# Altium integrated library Cypress Clocks & Buffers Clock Generation.IntLib: 249 symbols (part 10 of 12)
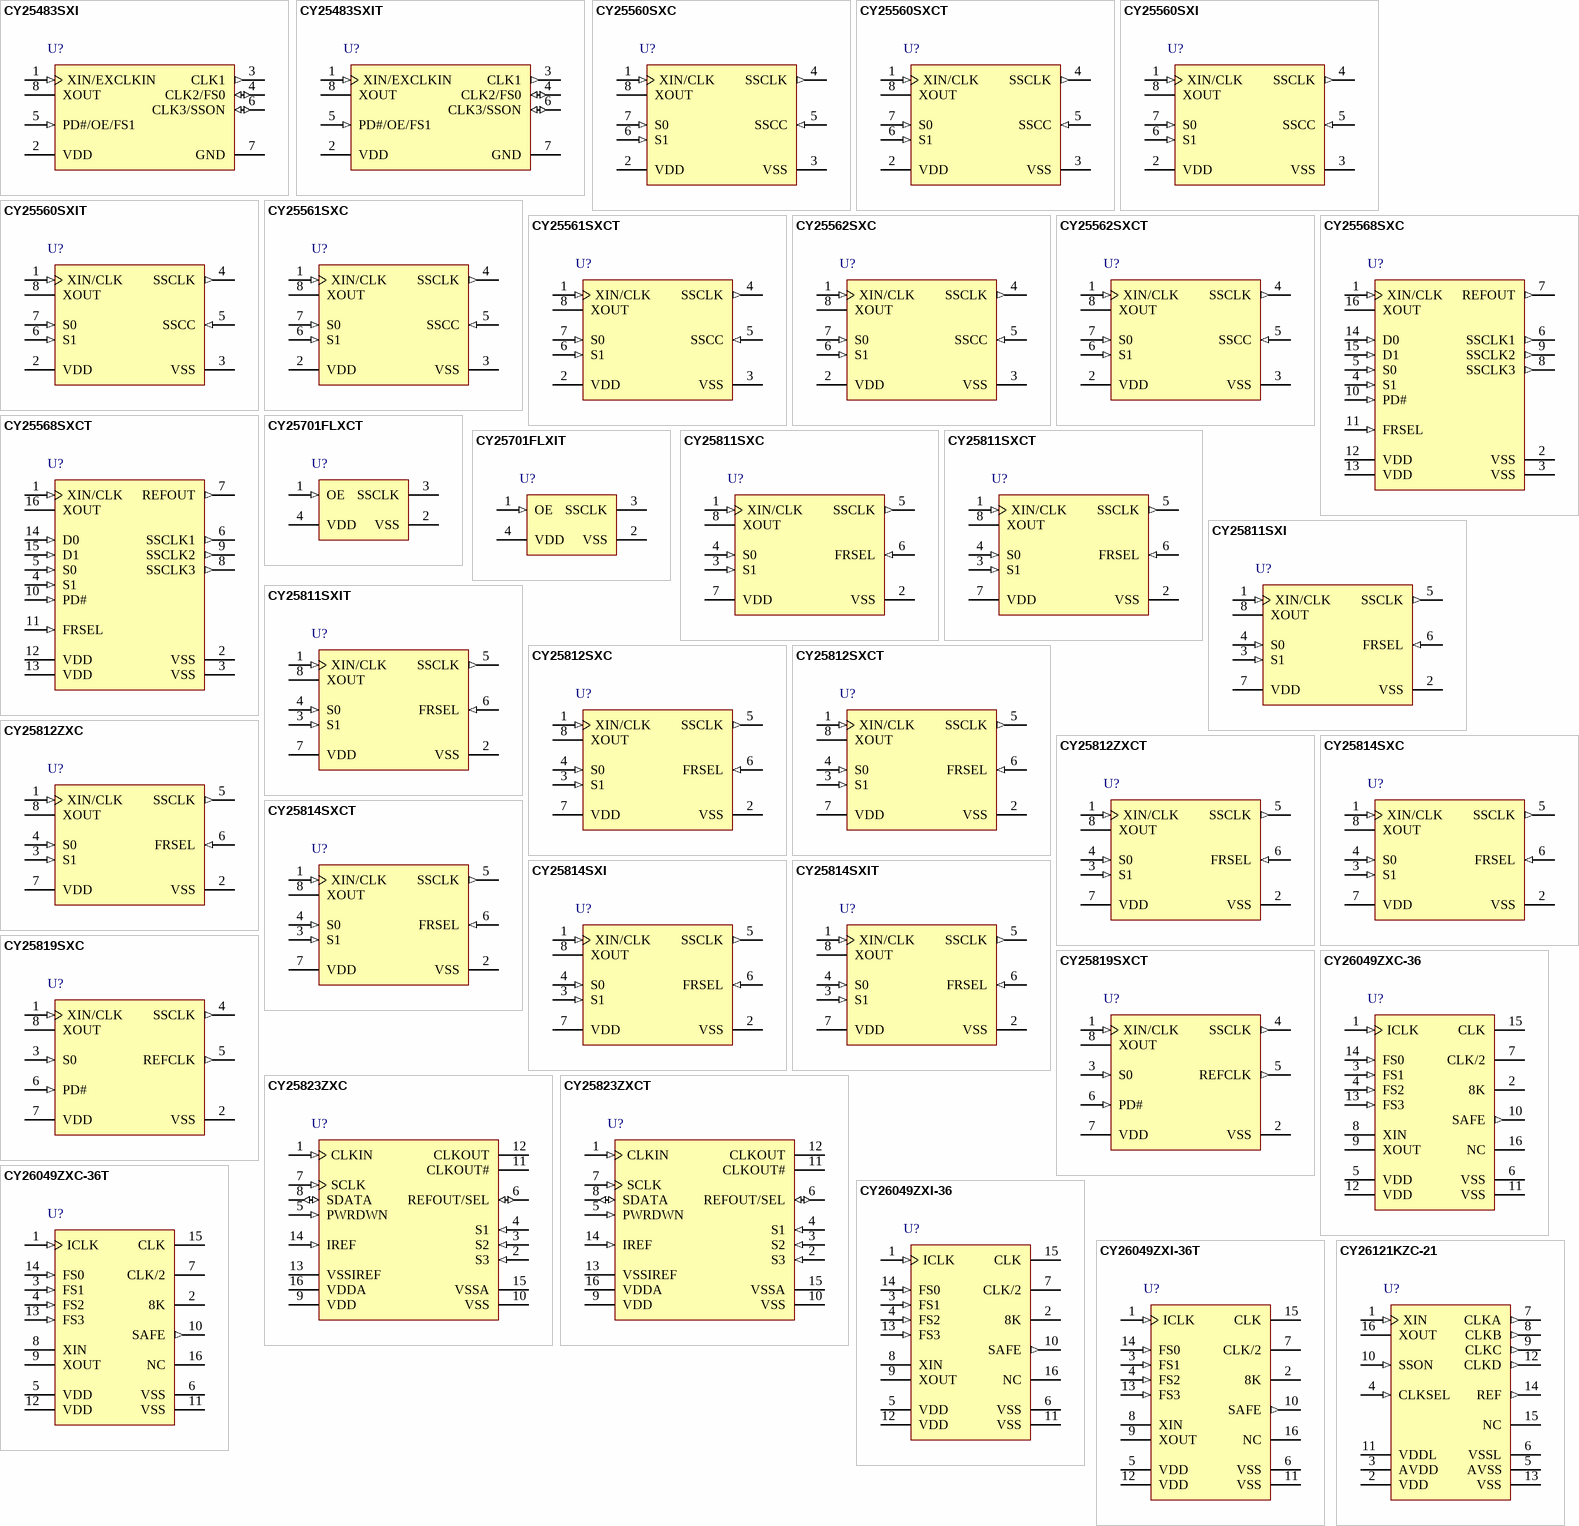
[diagram p17: symbols CY25483SXI to CY26121KZC-21]

## CY25812ZXCT
designator U?
Spread Spectrum Clock Generator, 3.3 V, 1 Output, 8 to 64 MHz, 0 to 70 degC, 8-Pin TSSOP (ZX8), Tape and Reel; Manufacturer: Cypress; PartNumber: CY25812ZXCT; Input Frequency Max. (MHz): 32; Input Frequency Min. (MHz): 4; Max. Operating Voltage (V): 3.63; Min. Operating Voltage (V): 2.97; No. of Outputs: 1; Output Frequency Max. (MHz): 64; Output Frequency Min. (MHz): 8; DatasheetVersion: Rev. *J; PackageVersion: Rev. *D, 09/2011; PackageReference: ZX8; PackageDescription: 8-Pin Thin Shrink Small Outline Package, Body 3 x 4.4 mm, Pitch 0.65 mm; Supplier 1: Digi-Key; Supplier Part Number 1: CY25812ZXCT-ND; Supplier 2: Mouser; Supplier Part Number 2: 727-CY25812ZXCT; Max. Operating Temp. (degreesC): 70; Min. Operating Temp. (degreesC): 0; Packing: Tape and Reel; RoHS: Pb-Free; Mounting Technology: Surface Mount; Code_JEDEC: MO-153; ComponentLink1Description: Manufacturer URL; ComponentLink1URL: http://www.cypress.com/; ComponentLink2Description: Datasheet; ComponentLink2URL: http://www.cypress.com/?docID=30664; ComponentLink3Description: Package Specification; ComponentLink3URL: http://www.cypress.com/?docID=39142
footprint CYP-ZX8_N (SOP, 8-Leads, Body 4.5x3.1mm, Pitch 0.65mm, IPC Medium Density)
footprint CYP-ZX8_L (SOP, 8-Leads, Body 4.5x3.1mm, Pitch 0.65mm, IPC High Density)
footprint CYP-ZX8_M (SOP, 8-Leads, Body 4.5x3.1mm, Pitch 0.65mm, IPC Low Density)
pins: 1 XIN/CLK (in) "Crystal, Ceramic Resonator or Clock Input Pin.", 2 VSS (power) "Power Supply Ground.", 3 S1 (in) "Digital Spread% Control Pin. 3-Level input (H-M-L). Default = M.", 4 S0 (in) "Digital Spread% Control Pin. 3-Level input (H-M-L). Default = M.", 5 SSCLK (out) "Spread Spectrum Output Clock.", 6 FRSEL (in) "Input Frequency Range Selection Digital Control Input. 3-Level input (H-M-L). Default = M.", 7 VDD (power) "Positive Power Supply.", 8 XOUT "Crystal or Ceramic Resonator Output Pin."

## CY25814SXC
designator U?
Spread Spectrum Clock Generator, 3.3 V, 1 Output, 16 to 128 MHz, 0 to 70 degC, 8-Pin SOIC (SX8), Tube; Manufacturer: Cypress; PartNumber: CY25814SXC; Input Frequency Max. (MHz): 32; Input Frequency Min. (MHz): 4; Max. Operating Voltage (V): 3.63; Min. Operating Voltage (V): 2.97; No. of Outputs: 1; Output Frequency Max. (MHz): 128; Output Frequency Min. (MHz): 16; DatasheetVersion: Rev. *J; PackageVersion: Rev. *E, 06/2011; PackageReference: SX8; PackageDescription: 8-pin Lead SOIC-S08, Body 4.89 x 3.90 mm,Pitch 1.27 mm; Supplier 1: Digi-Key; Supplier Part Number 1: 428-2227-5-ND; Supplier 2: Mouser; Supplier Part Number 2: 727-CY25814SXC; Max. Operating Temp. (degreesC): 70; Min. Operating Temp. (degreesC): 0; Packing: Tube; RoHS: Pb-Free; Mounting Technology: Surface Mount; Code_JEDEC: MS-012; ComponentLink1Description: Manufacturer URL; ComponentLink1URL: http://www.cypress.com/; ComponentLink2Description: Datasheet; ComponentLink2URL: http://www.cypress.com/?docID=30664; ComponentLink3Description: Package Specification; ComponentLink3URL: http://www.cypress.com/?docID=39153
footprint CYP-SX8_N (SOIC, 8-Leads, Body 4.89x3.90mm, Pitch 1.27mm, IPC Medium Density)
footprint CYP-SX8_L (SOIC, 8-Leads, Body 4.89x3.90mm, Pitch 1.27mm, IPC High Density)
footprint CYP-SX8_M (SOIC, 8-Leads, Body 4.89x3.90mm, Pitch 1.27mm, IPC Low Density)
pins: 1 XIN/CLK (in) "Crystal, Ceramic Resonator or Clock Input Pin.", 2 VSS (power) "Power Supply Ground.", 3 S1 (in) "Digital Spread% Control Pin. 3-Level input (H-M-L). Default = M.", 4 S0 (in) "Digital Spread% Control Pin. 3-Level input (H-M-L). Default = M.", 5 SSCLK (out) "Spread Spectrum Output Clock.", 6 FRSEL (in) "Input Frequency Range Selection Digital Control Input. 3-Level input (H-M-L). Default = M.", 7 VDD (power) "Positive Power Supply.", 8 XOUT "Crystal or Ceramic Resonator Output Pin."

## CY25814SXCT
designator U?
Spread Spectrum Clock Generator, 3.3 V, 1 Output, 16 to 128 MHz, 0 to 70 degC, 8-Pin SOIC (SX8), Tape and Reel; Manufacturer: Cypress; PartNumber: CY25814SXCT; Input Frequency Max. (MHz): 32; Input Frequency Min. (MHz): 4; Max. Operating Voltage (V): 3.63; Min. Operating Voltage (V): 2.97; No. of Outputs: 1; Output Frequency Max. (MHz): 128; Output Frequency Min. (MHz): 16; DatasheetVersion: Rev. *J; PackageVersion: Rev. *E, 06/2011; PackageReference: SX8; PackageDescription: 8-pin Lead SOIC-S08, Body 4.89 x 3.90 mm,Pitch 1.27 mm; Supplier 1: Digi-Key; Supplier Part Number 1: CY25814SXCT-ND; Supplier 2: Mouser; Supplier Part Number 2: 727-CY25814SXCT; Max. Operating Temp. (degreesC): 70; Min. Operating Temp. (degreesC): 0; Packing: Tape and Reel; RoHS: Pb-Free; Mounting Technology: Surface Mount; Code_JEDEC: MS-012; ComponentLink1Description: Manufacturer URL; ComponentLink1URL: http://www.cypress.com/; ComponentLink2Description: Datasheet; ComponentLink2URL: http://www.cypress.com/?docID=30664; ComponentLink3Description: Package Specification; ComponentLink3URL: http://www.cypress.com/?docID=39153
footprint CYP-SX8_N (SOIC, 8-Leads, Body 4.89x3.90mm, Pitch 1.27mm, IPC Medium Density)
footprint CYP-SX8_L (SOIC, 8-Leads, Body 4.89x3.90mm, Pitch 1.27mm, IPC High Density)
footprint CYP-SX8_M (SOIC, 8-Leads, Body 4.89x3.90mm, Pitch 1.27mm, IPC Low Density)
pins: 1 XIN/CLK (in) "Crystal, Ceramic Resonator or Clock Input Pin.", 2 VSS (power) "Power Supply Ground.", 3 S1 (in) "Digital Spread% Control Pin. 3-Level input (H-M-L). Default = M.", 4 S0 (in) "Digital Spread% Control Pin. 3-Level input (H-M-L). Default = M.", 5 SSCLK (out) "Spread Spectrum Output Clock.", 6 FRSEL (in) "Input Frequency Range Selection Digital Control Input. 3-Level input (H-M-L). Default = M.", 7 VDD (power) "Positive Power Supply.", 8 XOUT "Crystal or Ceramic Resonator Output Pin."

## CY25814SXI
designator U?
Spread Spectrum Clock Generator, 3.3 V, 1 Output, 16 to 128 MHz, -40 to 85 degC, 8-Pin SOIC (SX8), Tube; Manufacturer: Cypress; PartNumber: CY25814SXI; Input Frequency Max. (MHz): 32; Input Frequency Min. (MHz): 4; Max. Operating Voltage (V): 3.465; Min. Operating Voltage (V): 3.135; No. of Outputs: 1; Output Frequency Max. (MHz): 128; Output Frequency Min. (MHz): 16; DatasheetVersion: Rev. *J; PackageVersion: Rev. *E, 06/2011; PackageReference: SX8; PackageDescription: 8-pin Lead SOIC-S08, Body 4.89 x 3.90 mm,Pitch 1.27 mm; Supplier 1: Digi-Key; Supplier Part Number 1: 428-2228-5-ND; Supplier 2: Mouser; Supplier Part Number 2: 727-CY25814SXI; Max. Operating Temp. (degreesC): 85; Min. Operating Temp. (degreesC): -40; Packing: Tube; RoHS: Pb-Free; Mounting Technology: Surface Mount; Code_JEDEC: MS-012; ComponentLink1Description: Manufacturer URL; ComponentLink1URL: http://www.cypress.com/; ComponentLink2Description: Datasheet; ComponentLink2URL: http://www.cypress.com/?docID=30664; ComponentLink3Description: Package Specification; ComponentLink3URL: http://www.cypress.com/?docID=39153
footprint CYP-SX8_N (SOIC, 8-Leads, Body 4.89x3.90mm, Pitch 1.27mm, IPC Medium Density)
footprint CYP-SX8_L (SOIC, 8-Leads, Body 4.89x3.90mm, Pitch 1.27mm, IPC High Density)
footprint CYP-SX8_M (SOIC, 8-Leads, Body 4.89x3.90mm, Pitch 1.27mm, IPC Low Density)
pins: 1 XIN/CLK (in) "Crystal, Ceramic Resonator or Clock Input Pin.", 2 VSS (power) "Power Supply Ground.", 3 S1 (in) "Digital Spread% Control Pin. 3-Level input (H-M-L). Default = M.", 4 S0 (in) "Digital Spread% Control Pin. 3-Level input (H-M-L). Default = M.", 5 SSCLK (out) "Spread Spectrum Output Clock.", 6 FRSEL (in) "Input Frequency Range Selection Digital Control Input. 3-Level input (H-M-L). Default = M.", 7 VDD (power) "Positive Power Supply.", 8 XOUT "Crystal or Ceramic Resonator Output Pin."

## CY25814SXIT
designator U?
Spread Spectrum Clock Generator, 3.3 V, 1 Output, 16 to 128 MHz, -40 to 85 degC, 8-Pin SOIC (SX8), Tape and Reel; Manufacturer: Cypress; PartNumber: CY25814SXIT; Input Frequency Max. (MHz): 32; Input Frequency Min. (MHz): 4; Max. Operating Voltage (V): 3.465; Min. Operating Voltage (V): 3.135; No. of Outputs: 1; Output Frequency Max. (MHz): 128; Output Frequency Min. (MHz): 16; DatasheetVersion: Rev. *J; PackageVersion: Rev. *E, 06/2011; PackageReference: SX8; PackageDescription: 8-pin Lead SOIC-S08, Body 4.89 x 3.90 mm,Pitch 1.27 mm; Supplier 1: Digi-Key; Supplier Part Number 1: CY25814SXIT-ND; Supplier 2: Mouser; Supplier Part Number 2: 727-CY25814SXIT; Max. Operating Temp. (degreesC): 85; Min. Operating Temp. (degreesC): -40; Packing: Tape and Reel; RoHS: Pb-Free; Mounting Technology: Surface Mount; Code_JEDEC: MS-012; ComponentLink1Description: Manufacturer URL; ComponentLink1URL: http://www.cypress.com/; ComponentLink2Description: Datasheet; ComponentLink2URL: http://www.cypress.com/?docID=30664; ComponentLink3Description: Package Specification; ComponentLink3URL: http://www.cypress.com/?docID=39153
footprint CYP-SX8_N (SOIC, 8-Leads, Body 4.89x3.90mm, Pitch 1.27mm, IPC Medium Density)
footprint CYP-SX8_L (SOIC, 8-Leads, Body 4.89x3.90mm, Pitch 1.27mm, IPC High Density)
footprint CYP-SX8_M (SOIC, 8-Leads, Body 4.89x3.90mm, Pitch 1.27mm, IPC Low Density)
pins: 1 XIN/CLK (in) "Crystal, Ceramic Resonator or Clock Input Pin.", 2 VSS (power) "Power Supply Ground.", 3 S1 (in) "Digital Spread% Control Pin. 3-Level input (H-M-L). Default = M.", 4 S0 (in) "Digital Spread% Control Pin. 3-Level input (H-M-L). Default = M.", 5 SSCLK (out) "Spread Spectrum Output Clock.", 6 FRSEL (in) "Input Frequency Range Selection Digital Control Input. 3-Level input (H-M-L). Default = M.", 7 VDD (power) "Positive Power Supply.", 8 XOUT "Crystal or Ceramic Resonator Output Pin."

## CY25819SXC
designator U?
Spread Spectrum Clock Generator, 3.3 V, 2 Outputs, 16 to 32 MHz, 0 to 70 degC, 8-Pin SOIC (SX8), Tube; Manufacturer: Cypress; PartNumber: CY25819SXC; Input Frequency Max. (MHz): 32; Max. Operating Voltage (V): 3.63; Min. Operating Voltage (V): 2.97; No. of Outputs: 2; Output Frequency Min. (MHz): 16; DatasheetVersion: Rev. *D; PackageVersion: Rev. *E, 06/2011; PackageReference: SX8; PackageDescription: 8-pin Lead SOIC-S08, Body 4.89 x 3.90 mm,Pitch 1.27 mm; Supplier 1: Digi-Key; Supplier Part Number 1: CY25819SXC-ND; Supplier 2: Mouser; Supplier Part Number 2: 727-CY25819SXC; Max. Operating Temp. (degreesC): 70; Min. Operating Temp. (degreesC): 0; Output Frequency Max. (MHz): 32; Packing: Tube; RoHS: Pb-Free; Mounting Technology: Surface Mount; Code_JEDEC: MS-012; ComponentLink1Description: Manufacturer URL; ComponentLink1URL: http://www.cypress.com/; ComponentLink2Description: Datasheet; ComponentLink2URL: http://www.cypress.com/?docID=22347; ComponentLink3Description: Package Specification; ComponentLink3URL: http://www.cypress.com/?docID=39153
footprint CYP-SX8_N (SOIC, 8-Leads, Body 4.89x3.90mm, Pitch 1.27mm, IPC Medium Density)
footprint CYP-SX8_L (SOIC, 8-Leads, Body 4.89x3.90mm, Pitch 1.27mm, IPC High Density)
footprint CYP-SX8_M (SOIC, 8-Leads, Body 4.89x3.90mm, Pitch 1.27mm, IPC Low Density)
pins: 1 XIN/CLK (in) "?Clock, Crystal, or Ceramic Resonator Input Pin.", 2 VSS (power) "Power Supply Ground.", 3 S0 (in) "Digital Spread% Control Pin. 3-Level input (H-M-L). Default = M.", 4 SSCLK (out) "Modulated Spread Spectrum Output Clock. The output frequency is referenced to input frequency. Refer to Table 2 on page 4 for the amount of modulation (Spread%).", 5 REFCLK (out) "Unmodulated Reference Clock Output. The unmodulated output frequency is the same as the input frequency.", 6 PD# (in) "Power Down Control Pin. Default = H (Vdd).", 7 VDD (power) "Positive Power Supply.", 8 XOUT "Clock, Crystal, or Ceramic Resonator Output Pin. Leave this pin unconnected if an external clock is used at XIN pin."

## CY25819SXCT
designator U?
Spread Spectrum Clock Generator, 3.3 V, 2 Outputs, 16 to 32 MHz, 0 to 70 degC, 8-Pin SOIC (SX8), Tape and Reel; Manufacturer: Cypress; PartNumber: CY25819SXCT; Input Frequency Max. (MHz): 32; Max. Operating Voltage (V): 3.63; Min. Operating Voltage (V): 2.97; No. of Outputs: 2; Output Frequency Min. (MHz): 16; DatasheetVersion: Rev. *D; PackageVersion: Rev. *E, 06/2011; PackageReference: SX8; PackageDescription: 8-pin Lead SOIC-S08, Body 4.89 x 3.90 mm,Pitch 1.27 mm; Supplier 1: Digi-Key; Supplier Part Number 1: CY25819SXCT-ND; Supplier 2: Mouser; Supplier Part Number 2: 727-CY25819SXCT; Max. Operating Temp. (degreesC): 70; Min. Operating Temp. (degreesC): 0; Output Frequency Max. (MHz): 32; Packing: Tape and Reel; RoHS: Pb-Free; Mounting Technology: Surface Mount; Code_JEDEC: MS-012; ComponentLink1Description: Manufacturer URL; ComponentLink1URL: http://www.cypress.com/; ComponentLink2Description: Datasheet; ComponentLink2URL: http://www.cypress.com/?docID=22347; ComponentLink3Description: Package Specification; ComponentLink3URL: http://www.cypress.com/?docID=39153
footprint CYP-SX8_N (SOIC, 8-Leads, Body 4.89x3.90mm, Pitch 1.27mm, IPC Medium Density)
footprint CYP-SX8_L (SOIC, 8-Leads, Body 4.89x3.90mm, Pitch 1.27mm, IPC High Density)
footprint CYP-SX8_M (SOIC, 8-Leads, Body 4.89x3.90mm, Pitch 1.27mm, IPC Low Density)
pins: 1 XIN/CLK (in) "?Clock, Crystal, or Ceramic Resonator Input Pin.", 2 VSS (power) "Power Supply Ground.", 3 S0 (in) "Digital Spread% Control Pin. 3-Level input (H-M-L). Default = M.", 4 SSCLK (out) "Modulated Spread Spectrum Output Clock. The output frequency is referenced to input frequency. Refer to Table 2 on page 4 for the amount of modulation (Spread%).", 5 REFCLK (out) "Unmodulated Reference Clock Output. The unmodulated output frequency is the same as the input frequency.", 6 PD# (in) "Power Down Control Pin. Default = H (Vdd).", 7 VDD (power) "Positive Power Supply.", 8 XOUT "Clock, Crystal, or Ceramic Resonator Output Pin. Leave this pin unconnected if an external clock is used at XIN pin."

## CY25823ZXC
designator U?
CK-SSCD Spread Spectrum Differential Clock Specification, 3.3 V, 2 Outputs, 96 to 100 MHz, 0 to 70 degC, 16-Pin TSSOP (ZX16), Tube; Manufacturer: Cypress; PartNumber: CY25823ZXC; Input Frequency Max. (MHz): 14.131818; Max. Operating Voltage (V): 3.465; Min. Operating Voltage (V): 3.135; No. of Outputs: 2; Output Frequency Max. (MHz): 100; Output Frequency Min. (MHz): 96; DatasheetVersion: Rev. *E; PackageVersion: Rev. *D, 09/2011; PackageReference: ZX16; PackageDescription: 16-Pin Thin Shrink Small Outline Package, Body 5 x 4.4 mm, Pitch 0.65 mm; Supplier 1: Digi-Key; Supplier Part Number 1: CY25823ZXC-ND; Supplier 2: Mouser; Supplier Part Number 2: 727-CY25823ZXC; Input Frequency Min. (MHz): 14.131818; Max. Operating Temp. (degreesC): 70; Min. Operating Temp. (degreesC): 0; Packing: Tube; RoHS: Pb-Free; Mounting Technology: Surface Mount; Code_JEDEC: MO-153; ComponentLink1Description: Manufacturer URL; ComponentLink1URL: http://www.cypress.com/; ComponentLink2Description: Datasheet; ComponentLink2URL: http://www.cypress.com/?docID=48128; ComponentLink3Description: Package Specification; ComponentLink3URL: http://www.cypress.com/?docID=39143
footprint CYP-ZX16_N (SOP, 16-Leads, Body 5.1x4.5mm, Pitch 0.65mm, IPC Medium Density)
footprint CYP-ZX16_L (SOP, 16-Leads, Body 5.1x4.5mm, Pitch 0.65mm, IPC High Density)
footprint CYP-ZX16_M (SOP, 16-Leads, Body 5.1x4.5mm, Pitch 0.65mm, IPC Low Density)
pins: 1 CLKIN (in) "3.3 V 14.131818-MHz single-ended clock input", 2 S3 (in) "Spread Spectrum configuration", 3 S2 (in) "Spread Spectrum configuration", 4 S1 (in) "Spread Spectrum configuration", 5 PWRDWN (in) "3.3 V LVTTL input for power-down active high, no pull-up or pull-down", 6 REFOUT/SEL (io) "Latched input during power-up, 1 (10K external pull-up) = 100 MHz or 0 (10K external pull-down) = 96 MHz. After power-up it becomes 14.31818-MHz REFOUT clock.", 7 SCLK (in) "SMBus-compatible SCLK", 8 SDATA (io) "SMBus-compatible SDATA", 9 VDD (power) "3.3 V power supply for logic and outputs", 10 VSS (power) "Ground for logic and outputs", 11 CLKOUT# (hiz) "0.7 V 96-MHz or 100-MHz Spread Spectrum differential clock output", 12 CLKOUT (hiz) "0.7 V 96-MHz or 100-MHz Spread Spectrum differential clock output", 13 VSSIREF (power) "Current reference ground", 14 IREF (in) "Typically a precision 475 Ohm external resistor is connected between this pin and VSSIREF to set IOUT (drive current) of CLKOUT differential driver.", 15 VSSA (power) "Ground for PLL", 16 VDDA (power) "3.3 V power supply for PLL"

## CY25823ZXCT
designator U?
CK-SSCD Spread Spectrum Differential Clock Specification, 3.3 V, 2 Outputs, 96 to 100 MHz, 0 to 70 degC, 16-Pin TSSOP (ZX16), Tape and Reel; Manufacturer: Cypress; PartNumber: CY25823ZXCT; Input Frequency Max. (MHz): 14.131818; Max. Operating Voltage (V): 3.465; Min. Operating Voltage (V): 3.135; No. of Outputs: 2; Output Frequency Max. (MHz): 100; Output Frequency Min. (MHz): 96; DatasheetVersion: Rev. *E; PackageVersion: Rev. *D, 09/2011; PackageReference: ZX16; PackageDescription: 16-Pin Thin Shrink Small Outline Package, Body 5 x 4.4 mm, Pitch 0.65 mm; Supplier 1: Digi-Key; Supplier Part Number 1: CY25823ZXCT-ND; Supplier 2: Mouser; Supplier Part Number 2: 727-CY25823ZXCT; Input Frequency Min. (MHz): 14.131818; Max. Operating Temp. (degreesC): 70; Min. Operating Temp. (degreesC): 0; Packing: Tape and Reel; RoHS: Pb-Free; Mounting Technology: Surface Mount; Code_JEDEC: MO-153; ComponentLink1Description: Manufacturer URL; ComponentLink1URL: http://www.cypress.com/; ComponentLink2Description: Datasheet; ComponentLink2URL: http://www.cypress.com/?docID=48128; ComponentLink3Description: Package Specification; ComponentLink3URL: http://www.cypress.com/?docID=39143
footprint CYP-ZX16_N (SOP, 16-Leads, Body 5.1x4.5mm, Pitch 0.65mm, IPC Medium Density)
footprint CYP-ZX16_L (SOP, 16-Leads, Body 5.1x4.5mm, Pitch 0.65mm, IPC High Density)
footprint CYP-ZX16_M (SOP, 16-Leads, Body 5.1x4.5mm, Pitch 0.65mm, IPC Low Density)
pins: 1 CLKIN (in) "3.3 V 14.131818-MHz single-ended clock input", 2 S3 (in) "Spread Spectrum configuration", 3 S2 (in) "Spread Spectrum configuration", 4 S1 (in) "Spread Spectrum configuration", 5 PWRDWN (in) "3.3 V LVTTL input for power-down active high, no pull-up or pull-down", 6 REFOUT/SEL (io) "Latched input during power-up, 1 (10K external pull-up) = 100 MHz or 0 (10K external pull-down) = 96 MHz. After power-up it becomes 14.31818-MHz REFOUT clock.", 7 SCLK (in) "SMBus-compatible SCLK", 8 SDATA (io) "SMBus-compatible SDATA", 9 VDD (power) "3.3 V power supply for logic and outputs", 10 VSS (power) "Ground for logic and outputs", 11 CLKOUT# (hiz) "0.7 V 96-MHz or 100-MHz Spread Spectrum differential clock output", 12 CLKOUT (hiz) "0.7 V 96-MHz or 100-MHz Spread Spectrum differential clock output", 13 VSSIREF (power) "Current reference ground", 14 IREF (in) "Typically a precision 475 Ohm external resistor is connected between this pin and VSSIREF to set IOUT (drive current) of CLKOUT differential driver.", 15 VSSA (power) "Ground for PLL", 16 VDDA (power) "3.3 V power supply for PLL"

## CY26049ZXC-36
designator U?
FailSafe(TM) PacketClock Global Communications Clock Generator, 3.3 V, 3 Outputs, 0.008 to 155.52 MHz, 0 to 70 degC, 16-Pin TSSOP (ZX16), Tube; Manufacturer: Cypress; PartNumber: CY26049ZXC-36; Input Frequency Max. (MHz): 60; Input Frequency Min. (MHz): 0.008; Max. Operating Voltage (V): 3.45; Min. Operating Voltage (V): 3.15; No. of Outputs: 3; DatasheetVersion: Rev. *F; PackageVersion: Rev. *D, 09/2011; PackageReference: ZX16; PackageDescription: 16-Pin Thin Shrink Small Outline Package, Body 5 x 4.4 mm, Pitch 0.65 mm; Supplier 1: Digi-Key; Supplier Part Number 1: CY26049ZXC-36-ND; Supplier 2: Mouser; Supplier Part Number 2: 727-CY26049ZXC-36; Max. Operating Temp. (degreesC): 70; Min. Operating Temp. (degreesC): 0; Packing: Tube; RoHS: Pb-Free; Mounting Technology: Surface Mount; Code_JEDEC: MO-153; ComponentLink1Description: Manufacturer URL; ComponentLink1URL: http://www.cypress.com/; ComponentLink2Description: Datasheet; ComponentLink2URL: http://www.cypress.com/?docID=31458; ComponentLink3Description: Package Specification; ComponentLink3URL: http://www.cypress.com/?docID=39143
footprint CYP-ZX16_N (SOP, 16-Leads, Body 5.1x4.5mm, Pitch 0.65mm, IPC Medium Density)
footprint CYP-ZX16_L (SOP, 16-Leads, Body 5.1x4.5mm, Pitch 0.65mm, IPC High Density)
footprint CYP-ZX16_M (SOP, 16-Leads, Body 5.1x4.5mm, Pitch 0.65mm, IPC Low Density)
pins: 1 ICLK (in) "Reference Input Clock; 8 kHz or 10 to 60 MHz.", 2 8K (hiz) "Clock Output; 8 kHz or high impedance in buffer mode.", 3 FS1 (in) "Frequency Select 1; Determines CLK outputs according to Table 1 on page 4.", 4 FS2 (in) "Frequency Select 2; Determines CLK outputs according to Table 1 on page 4.", 5 VDD (power) "Voltage Supply; 3.3 V.", 6 VSS (power) "Ground", 7 CLK/2 (hiz) "Clock Output; Frequency according to Table 1 on page 4.", 8 XIN "Pullable Crystal Input; 18.432 MHz.", 9 XOUT "Pullable Crystal Output; 18.432 MHz.", 10 SAFE (out) "High = reference ICLK within range, Low = reference ICLK out of range.", 11 VSS (power) "Ground", 12 VDD (power) "Voltage Supply; 3.3 V.", 13 FS3 (in) "Frequency Select 3; Determines CLK outputs according to Table 1 on page 4.", 14 FS0 (in) "Frequency Select 0; Determines CLK outputs according to Table 1 on page 4.", 15 CLK (hiz) "Clock Output; Frequency according to Table 1 on page 4.", 16 NC "No Connect"

## CY26049ZXC-36T
designator U?
FailSafe(TM) PacketClock Global Communications Clock Generator, 3.3 V, 3 Outputs, 0.008 to 155.52 MHz, 0 to 70 degC, 16-Pin TSSOP (ZZ16), Tape and Reel; Manufacturer: Cypress; PartNumber: CY26049ZXC-36T; Input Frequency Max. (MHz): 60; Input Frequency Min. (MHz): 0.008; Max. Operating Voltage (V): 3.45; Min. Operating Voltage (V): 3.15; No. of Outputs: 3; DatasheetVersion: Rev. *F; PackageVersion: Rev. *D; PackageReference: ZZ16; PackageDescription: 16-Pin Thin Shrink Small Outline Package, Body 5 x 4.4 mm, Pitch 0.65 mm; Supplier 1: Digi-Key; Supplier Part Number 1: CY26049ZXC-36T-ND; Supplier 2: Mouser; Supplier Part Number 2: 727-CY26049ZXC-36T; Max. Operating Temp. (degreesC): 70; Min. Operating Temp. (degreesC): 0; Packing: Tape and Reel; RoHS: Pb-Free; Mounting Technology: Surface Mount; Code_JEDEC: MO-153; ComponentLink1Description: Manufacturer URL; ComponentLink1URL: http://www.cypress.com/; ComponentLink2Description: Datasheet; ComponentLink2URL: http://www.cypress.com/?docID=31458; ComponentLink3Description: Package Specification; ComponentLink3URL: http://www.cypress.com/?docID=42925
footprint CYP-ZZ16_N (SOP, 16-Leads, Body 5.1x4.5mm, Pitch 0.65mm, IPC Medium Density)
footprint CYP-ZZ16_L (SOP, 16-Leads, Body 5.1x4.5mm, Pitch 0.65mm, IPC High Density)
footprint CYP-ZZ16_M (SOP, 16-Leads, Body 5.1x4.5mm, Pitch 0.65mm, IPC Low Density)
pins: 1 ICLK (in) "Reference Input Clock; 8 kHz or 10 to 60 MHz.", 2 8K (hiz) "Clock Output; 8 kHz or high impedance in buffer mode.", 3 FS1 (in) "Frequency Select 1; Determines CLK outputs according to Table 1 on page 4.", 4 FS2 (in) "Frequency Select 2; Determines CLK outputs according to Table 1 on page 4.", 5 VDD (power) "Voltage Supply; 3.3 V.", 6 VSS (power) "Ground", 7 CLK/2 (hiz) "Clock Output; Frequency according to Table 1 on page 4.", 8 XIN "Pullable Crystal Input; 18.432 MHz.", 9 XOUT "Pullable Crystal Output; 18.432 MHz.", 10 SAFE (out) "High = reference ICLK within range, Low = reference ICLK out of range.", 11 VSS (power) "Ground", 12 VDD (power) "Voltage Supply; 3.3 V.", 13 FS3 (in) "Frequency Select 3; Determines CLK outputs according to Table 1 on page 4.", 14 FS0 (in) "Frequency Select 0; Determines CLK outputs according to Table 1 on page 4.", 15 CLK (hiz) "Clock Output; Frequency according to Table 1 on page 4.", 16 NC "No Connect"

## CY26049ZXI-36
designator U?
FailSafe(TM) PacketClock Global Communications Clock Generator, 3.3 V, 3 Outputs, 0.008 to 155.52 MHz, -40 to 85 degC, 16-Pin TSSOP (ZX16), Tube; Manufacturer: Cypress; PartNumber: CY26049ZXI-36; Input Frequency Max. (MHz): 60; Input Frequency Min. (MHz): 0.008; Max. Operating Voltage (V): 3.45; Min. Operating Voltage (V): 3.15; No. of Outputs: 3; DatasheetVersion: Rev. *F; PackageVersion: Rev. *D, 09/2011; PackageReference: ZX16; PackageDescription: 16-Pin Thin Shrink Small Outline Package, Body 5 x 4.4 mm, Pitch 0.65 mm; Supplier 1: Digi-Key; Supplier Part Number 1: CY26049ZXI-36-ND; Supplier 2: Mouser; Supplier Part Number 2: 727-CY26049ZXI36; Max. Operating Temp. (degreesC): 85; Min. Operating Temp. (degreesC): -40; Packing: Tube; RoHS: Pb-Free; Mounting Technology: Surface Mount; Code_JEDEC: MO-153; ComponentLink1Description: Manufacturer URL; ComponentLink1URL: http://www.cypress.com/; ComponentLink2Description: Datasheet; ComponentLink2URL: http://www.cypress.com/?docID=31458; ComponentLink3Description: Package Specification; ComponentLink3URL: http://www.cypress.com/?docID=39143
footprint CYP-ZX16_N (SOP, 16-Leads, Body 5.1x4.5mm, Pitch 0.65mm, IPC Medium Density)
footprint CYP-ZX16_L (SOP, 16-Leads, Body 5.1x4.5mm, Pitch 0.65mm, IPC High Density)
footprint CYP-ZX16_M (SOP, 16-Leads, Body 5.1x4.5mm, Pitch 0.65mm, IPC Low Density)
pins: 1 ICLK (in) "Reference Input Clock; 8 kHz or 10 to 60 MHz.", 2 8K (hiz) "Clock Output; 8 kHz or high impedance in buffer mode.", 3 FS1 (in) "Frequency Select 1; Determines CLK outputs according to Table 1 on page 4.", 4 FS2 (in) "Frequency Select 2; Determines CLK outputs according to Table 1 on page 4.", 5 VDD (power) "Voltage Supply; 3.3 V.", 6 VSS (power) "Ground", 7 CLK/2 (hiz) "Clock Output; Frequency according to Table 1 on page 4.", 8 XIN "Pullable Crystal Input; 18.432 MHz.", 9 XOUT "Pullable Crystal Output; 18.432 MHz.", 10 SAFE (out) "High = reference ICLK within range, Low = reference ICLK out of range.", 11 VSS (power) "Ground", 12 VDD (power) "Voltage Supply; 3.3 V.", 13 FS3 (in) "Frequency Select 3; Determines CLK outputs according to Table 1 on page 4.", 14 FS0 (in) "Frequency Select 0; Determines CLK outputs according to Table 1 on page 4.", 15 CLK (hiz) "Clock Output; Frequency according to Table 1 on page 4.", 16 NC "No Connect"

## CY26049ZXI-36T
designator U?
FailSafe(TM) PacketClock Global Communications Clock Generator, 3.3 V, 3 Outputs, 0.008 to 155.52 MHz, -40 to 85 degC, 16-Pin TSSOP (ZX16), Tape and Reel; Manufacturer: Cypress; PartNumber: CY26049ZXI-36T; Input Frequency Max. (MHz): 60; Input Frequency Min. (MHz): 0.008; Max. Operating Voltage (V): 3.45; Min. Operating Voltage (V): 3.15; No. of Outputs: 3; DatasheetVersion: Rev. *F; PackageVersion: Rev. *D, 09/2011; PackageReference: ZX16; PackageDescription: 16-Pin Thin Shrink Small Outline Package, Body 5 x 4.4 mm, Pitch 0.65 mm; Supplier 1: Digi-Key; Supplier Part Number 1: CY26049ZXI-36T-ND; Supplier 2: Mouser; Supplier Part Number 2: 727-CY26049ZXI-36T; Max. Operating Temp. (degreesC): 85; Min. Operating Temp. (degreesC): -40; Packing: Tape and Reel; RoHS: Pb-Free; Mounting Technology: Surface Mount; Code_JEDEC: MO-153; ComponentLink1Description: Manufacturer URL; ComponentLink1URL: http://www.cypress.com/; ComponentLink2Description: Datasheet; ComponentLink2URL: http://www.cypress.com/?docID=31458; ComponentLink3Description: Package Specification; ComponentLink3URL: http://www.cypress.com/?docID=39143
footprint CYP-ZX16_N (SOP, 16-Leads, Body 5.1x4.5mm, Pitch 0.65mm, IPC Medium Density)
footprint CYP-ZX16_L (SOP, 16-Leads, Body 5.1x4.5mm, Pitch 0.65mm, IPC High Density)
footprint CYP-ZX16_M (SOP, 16-Leads, Body 5.1x4.5mm, Pitch 0.65mm, IPC Low Density)
pins: 1 ICLK (in) "Reference Input Clock; 8 kHz or 10 to 60 MHz.", 2 8K (hiz) "Clock Output; 8 kHz or high impedance in buffer mode.", 3 FS1 (in) "Frequency Select 1; Determines CLK outputs according to Table 1 on page 4.", 4 FS2 (in) "Frequency Select 2; Determines CLK outputs according to Table 1 on page 4.", 5 VDD (power) "Voltage Supply; 3.3 V.", 6 VSS (power) "Ground", 7 CLK/2 (hiz) "Clock Output; Frequency according to Table 1 on page 4.", 8 XIN "Pullable Crystal Input; 18.432 MHz.", 9 XOUT "Pullable Crystal Output; 18.432 MHz.", 10 SAFE (out) "High = reference ICLK within range, Low = reference ICLK out of range.", 11 VSS (power) "Ground", 12 VDD (power) "Voltage Supply; 3.3 V.", 13 FS3 (in) "Frequency Select 3; Determines CLK outputs according to Table 1 on page 4.", 14 FS0 (in) "Frequency Select 0; Determines CLK outputs according to Table 1 on page 4.", 15 CLK (hiz) "Clock Output; Frequency according to Table 1 on page 4.", 16 NC "No Connect"

## CY26121KZC-21
designator U?
PacketClock(TM) Spread Spectrum Clock Generator, 3.3 V, 5 Outputs, 25 to 33.33 MHz, 0 to 70 degC, 16-Pin TSSOP (Z16), Tube; Manufacturer: Cypress; PartNumber: CY26121KZC-21; Input Frequency Max. (MHz): 25; Max. Operating Voltage (V): 3.465; Min. Operating Voltage (V): 3.135; No. of Outputs: 5; Output Frequency Max. (MHz): 33.33; DatasheetVersion: Rev. *A; PackageVersion: Rev. *D; PackageReference: Z16; PackageDescription: 16-Pin Thin Shrink Small Outline Package, Body 5 x 4.4 mm, Pitch 0.65 mm; Supplier 1: Digi-Key; Supplier Part Number 1: CY26121KZC-21-ND; Supplier 2: Mouser; Supplier Part Number 2: 727-CY26121KZC-21; Input Frequency Min. (MHz): 25; Max. Operating Temp. (degreesC): 70; Min. Operating Temp. (degreesC): 0; Output Frequency Min. (MHz): 25; Packing: Tube; RoHS: Pb-Free; Mounting Technology: Surface Mount; Code_JEDEC: MO-153; ComponentLink1Description: Manufacturer URL; ComponentLink1URL: http://www.cypress.com/; ComponentLink2Description: Datasheet; ComponentLink2URL: http://www.cypress.com/?docID=5302; ComponentLink3Description: Package Specification; ComponentLink3URL: http://www.cypress.com/?docID=46959
footprint CYP-Z16_N (SOP, 16-Leads, Body 5.1x4.5mm, Pitch 0.65mm, IPC Medium Density)
footprint CYP-Z16_L (SOP, 16-Leads, Body 5.1x4.5mm, Pitch 0.65mm, IPC High Density)
footprint CYP-Z16_M (SOP, 16-Leads, Body 5.1x4.5mm, Pitch 0.65mm, IPC Low Density)
pins: 1 XIN (in) "Reference input Or Crystal Input", 2 VDD (power) "3.3V Voltage Supply", 3 AVDD (power) "3.3V Analog Voltage", 4 CLKSEL (in) "(orig., -11,-3,-31) 0 = 66.66MHz out, 1 = 33.33 MHz Out. Weak pull up. (-2, -21) 0 = 33.33MHz out, 1 = 25 MHz Out. Weak pull up.", 5 AVSS (power) "Analog Ground", 6 VSSL (power) "CLK Ground", 7 CLKA (out) "Clock Outputs at VDDL level", 8 CLKB (out) "Clock Outputs at VDDL level", 9 CLKC (out) "Clock Outputs at VDDL level", 10 SSON (in) "Spread Spectrum Enable pin 0 = SS off; 1 = SS on. Weak pull up.", 11 VDDL (power) "3.3V Clock Voltage Supply", 12 CLKD (out) "Clock Outputs at VDDL level", 13 VSS (power) "Ground", 14 REF (out) "Reference Output at VDD Level", 15 NC "No Connect", 16 XOUT "Crystal Output"

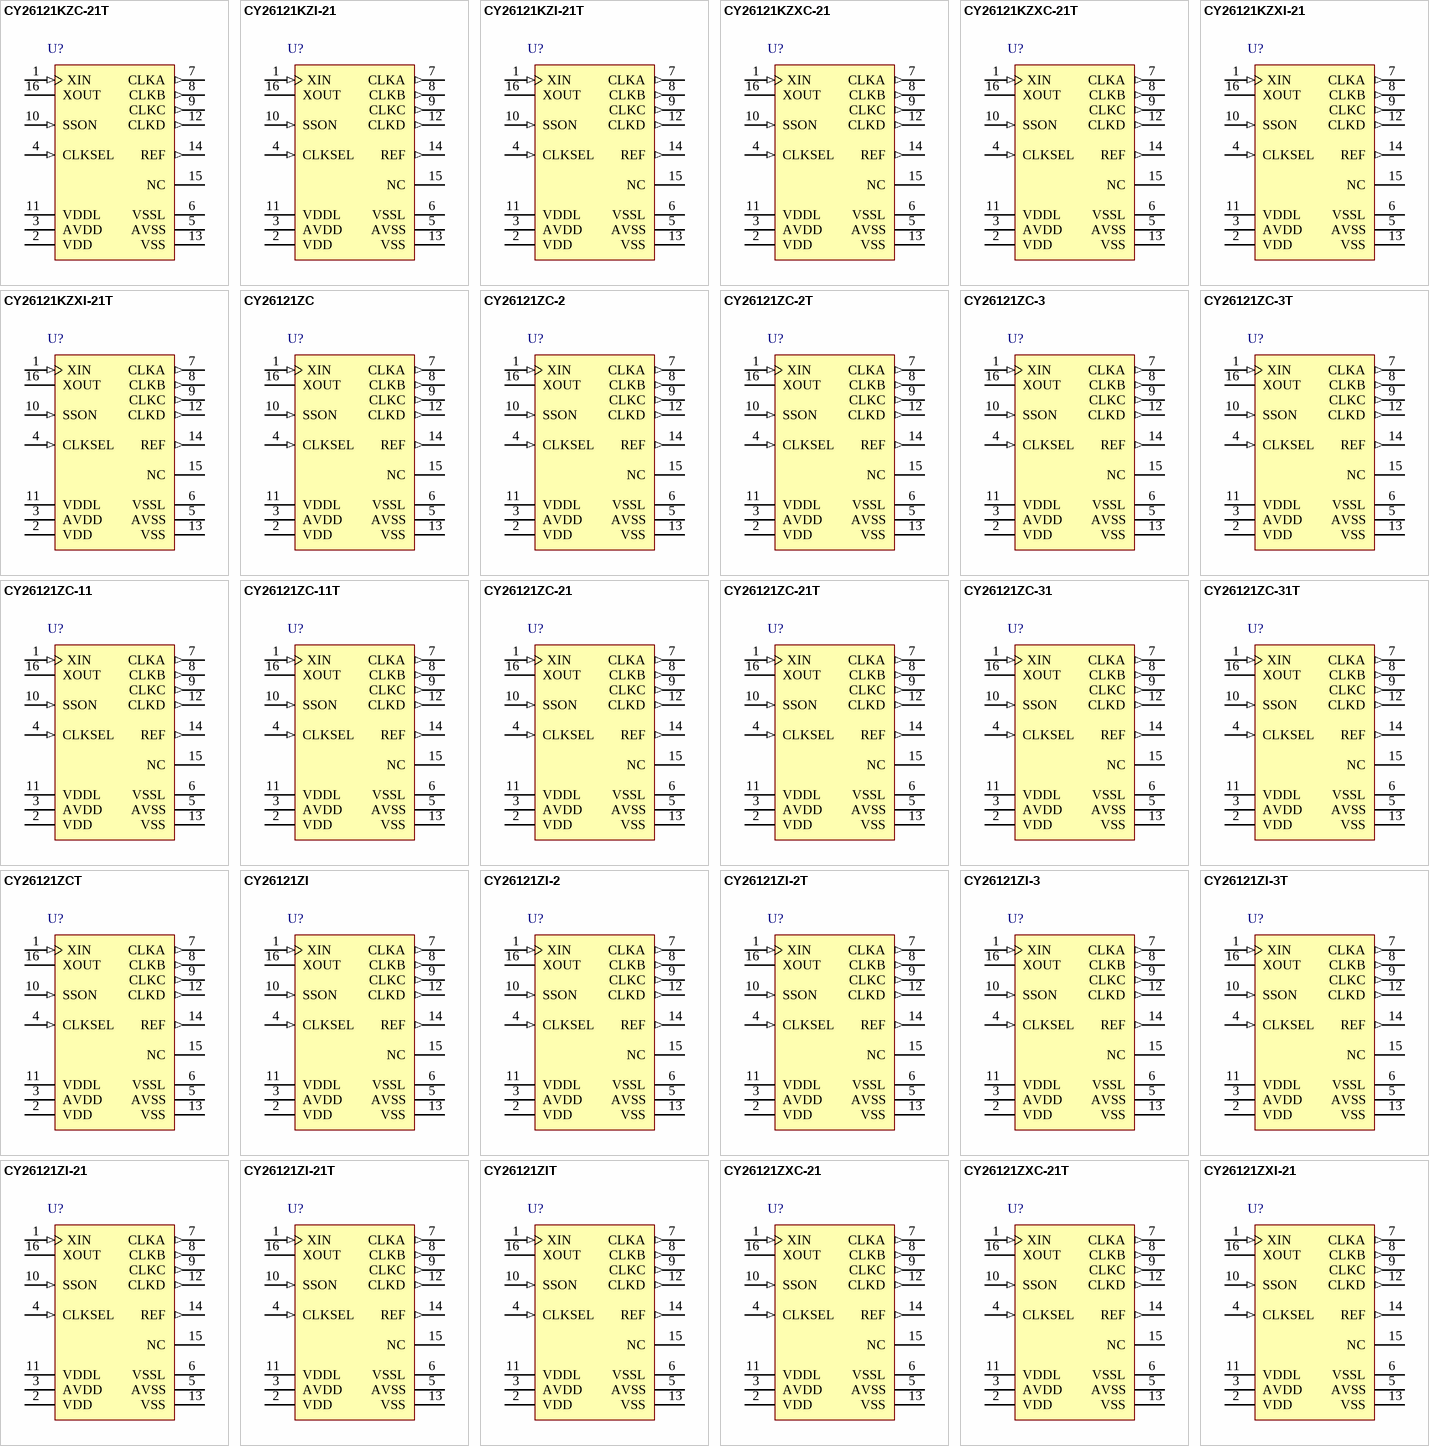
[diagram p7: symbols CY26121KZC-21T to CY26121ZXI-21]

## CY26121KZC-21T
designator U?
PacketClock(TM) Spread Spectrum Clock Generator, 3.3 V, 5 Outputs, 25 to 33.33 MHz, 0 to 70 degC, 16-Pin TSSOP (Z16), Tape and Reel; Manufacturer: Cypress; PartNumber: CY26121KZC-21T; Input Frequency Max. (MHz): 25; Max. Operating Voltage (V): 3.465; Min. Operating Voltage (V): 3.135; No. of Outputs: 5; Output Frequency Max. (MHz): 33.33; DatasheetVersion: Rev. *A; PackageVersion: Rev. *D; PackageReference: Z16; PackageDescription: 16-Pin Thin Shrink Small Outline Package, Body 5 x 4.4 mm, Pitch 0.65 mm; Supplier 1: Digi-Key; Supplier Part Number 1: CY26121KZC-21T-ND; Supplier 2: Mouser; Supplier Part Number 2: 727-CY26121KZC-21T; Input Frequency Min. (MHz): 25; Max. Operating Temp. (degreesC): 70; Min. Operating Temp. (degreesC): 0; Output Frequency Min. (MHz): 25; Packing: Tape and Reel; RoHS: Pb-Free; Mounting Technology: Surface Mount; Code_JEDEC: MO-153; ComponentLink1Description: Manufacturer URL; ComponentLink1URL: http://www.cypress.com/; ComponentLink2Description: Datasheet; ComponentLink2URL: http://www.cypress.com/?docID=5302; ComponentLink3Description: Package Specification; ComponentLink3URL: http://www.cypress.com/?docID=46959
footprint CYP-Z16_N (SOP, 16-Leads, Body 5.1x4.5mm, Pitch 0.65mm, IPC Medium Density)
footprint CYP-Z16_L (SOP, 16-Leads, Body 5.1x4.5mm, Pitch 0.65mm, IPC High Density)
footprint CYP-Z16_M (SOP, 16-Leads, Body 5.1x4.5mm, Pitch 0.65mm, IPC Low Density)
pins: 1 XIN (in) "Reference input Or Crystal Input", 2 VDD (power) "3.3V Voltage Supply", 3 AVDD (power) "3.3V Analog Voltage", 4 CLKSEL (in) "(orig., -11,-3,-31) 0 = 66.66MHz out, 1 = 33.33 MHz Out. Weak pull up. (-2, -21) 0 = 33.33MHz out, 1 = 25 MHz Out. Weak pull up.", 5 AVSS (power) "Analog Ground", 6 VSSL (power) "CLK Ground", 7 CLKA (out) "Clock Outputs at VDDL level", 8 CLKB (out) "Clock Outputs at VDDL level", 9 CLKC (out) "Clock Outputs at VDDL level", 10 SSON (in) "Spread Spectrum Enable pin 0 = SS off; 1 = SS on. Weak pull up.", 11 VDDL (power) "3.3V Clock Voltage Supply", 12 CLKD (out) "Clock Outputs at VDDL level", 13 VSS (power) "Ground", 14 REF (out) "Reference Output at VDD Level", 15 NC "No Connect", 16 XOUT "Crystal Output"

## CY26121KZI-21
designator U?
PacketClock(TM) Spread Spectrum Clock Generator, 3.3 V, 5 Outputs, 25 to 33.33 MHz, -40 to 85 degC, 16-Pin TSSOP (Z16), Tube; Manufacturer: Cypress; PartNumber: CY26121KZI-21; Input Frequency Max. (MHz): 25; Max. Operating Voltage (V): 3.465; Min. Operating Voltage (V): 3.135; No. of Outputs: 5; Output Frequency Max. (MHz): 33.33; DatasheetVersion: Rev. *A; PackageVersion: Rev. *D; PackageReference: Z16; PackageDescription: 16-Pin Thin Shrink Small Outline Package, Body 5 x 4.4 mm, Pitch 0.65 mm; Supplier 1: Digi-Key; Supplier Part Number 1: CY26121KZI-21-ND; Supplier 2: Mouser; Supplier Part Number 2: 727-CY26121KZI-21; Input Frequency Min. (MHz): 25; Max. Operating Temp. (degreesC): 85; Min. Operating Temp. (degreesC): -40; Output Frequency Min. (MHz): 25; Packing: Tube; RoHS: Pb-Free; Mounting Technology: Surface Mount; Code_JEDEC: MO-153; ComponentLink1Description: Manufacturer URL; ComponentLink1URL: http://www.cypress.com/; ComponentLink2Description: Datasheet; ComponentLink2URL: http://www.cypress.com/?docID=5302; ComponentLink3Description: Package Specification; ComponentLink3URL: http://www.cypress.com/?docID=46959
footprint CYP-Z16_N (SOP, 16-Leads, Body 5.1x4.5mm, Pitch 0.65mm, IPC Medium Density)
footprint CYP-Z16_L (SOP, 16-Leads, Body 5.1x4.5mm, Pitch 0.65mm, IPC High Density)
footprint CYP-Z16_M (SOP, 16-Leads, Body 5.1x4.5mm, Pitch 0.65mm, IPC Low Density)
pins: 1 XIN (in) "Reference input Or Crystal Input", 2 VDD (power) "3.3V Voltage Supply", 3 AVDD (power) "3.3V Analog Voltage", 4 CLKSEL (in) "(orig., -11,-3,-31) 0 = 66.66MHz out, 1 = 33.33 MHz Out. Weak pull up. (-2, -21) 0 = 33.33MHz out, 1 = 25 MHz Out. Weak pull up.", 5 AVSS (power) "Analog Ground", 6 VSSL (power) "CLK Ground", 7 CLKA (out) "Clock Outputs at VDDL level", 8 CLKB (out) "Clock Outputs at VDDL level", 9 CLKC (out) "Clock Outputs at VDDL level", 10 SSON (in) "Spread Spectrum Enable pin 0 = SS off; 1 = SS on. Weak pull up.", 11 VDDL (power) "3.3V Clock Voltage Supply", 12 CLKD (out) "Clock Outputs at VDDL level", 13 VSS (power) "Ground", 14 REF (out) "Reference Output at VDD Level", 15 NC "No Connect", 16 XOUT "Crystal Output"

## CY26121KZI-21T
designator U?
PacketClock(TM) Spread Spectrum Clock Generator, 3.3 V, 5 Outputs, 25 to 33.33 MHz, -40 to 85 degC, 16-Pin TSSOP (Z16), Tape and Reel; Manufacturer: Cypress; PartNumber: CY26121KZI-21T; Input Frequency Max. (MHz): 25; Max. Operating Voltage (V): 3.465; Min. Operating Voltage (V): 3.135; No. of Outputs: 5; Output Frequency Max. (MHz): 33.33; DatasheetVersion: Rev. *A; PackageVersion: Rev. *D; PackageReference: Z16; PackageDescription: 16-Pin Thin Shrink Small Outline Package, Body 5 x 4.4 mm, Pitch 0.65 mm; Supplier 1: Digi-Key; Supplier Part Number 1: CY26121KZI-21T-ND; Supplier 2: Mouser; Supplier Part Number 2: 727-CY26121KZI-21T; Input Frequency Min. (MHz): 25; Max. Operating Temp. (degreesC): 85; Min. Operating Temp. (degreesC): -40; Output Frequency Min. (MHz): 25; Packing: Tape and Reel; RoHS: Pb-Free; Mounting Technology: Surface Mount; Code_JEDEC: MO-153; ComponentLink1Description: Manufacturer URL; ComponentLink1URL: http://www.cypress.com/; ComponentLink2Description: Datasheet; ComponentLink2URL: http://www.cypress.com/?docID=5302; ComponentLink3Description: Package Specification; ComponentLink3URL: http://www.cypress.com/?docID=46959
footprint CYP-Z16_N (SOP, 16-Leads, Body 5.1x4.5mm, Pitch 0.65mm, IPC Medium Density)
footprint CYP-Z16_L (SOP, 16-Leads, Body 5.1x4.5mm, Pitch 0.65mm, IPC High Density)
footprint CYP-Z16_M (SOP, 16-Leads, Body 5.1x4.5mm, Pitch 0.65mm, IPC Low Density)
pins: 1 XIN (in) "Reference input Or Crystal Input", 2 VDD (power) "3.3V Voltage Supply", 3 AVDD (power) "3.3V Analog Voltage", 4 CLKSEL (in) "(orig., -11,-3,-31) 0 = 66.66MHz out, 1 = 33.33 MHz Out. Weak pull up. (-2, -21) 0 = 33.33MHz out, 1 = 25 MHz Out. Weak pull up.", 5 AVSS (power) "Analog Ground", 6 VSSL (power) "CLK Ground", 7 CLKA (out) "Clock Outputs at VDDL level", 8 CLKB (out) "Clock Outputs at VDDL level", 9 CLKC (out) "Clock Outputs at VDDL level", 10 SSON (in) "Spread Spectrum Enable pin 0 = SS off; 1 = SS on. Weak pull up.", 11 VDDL (power) "3.3V Clock Voltage Supply", 12 CLKD (out) "Clock Outputs at VDDL level", 13 VSS (power) "Ground", 14 REF (out) "Reference Output at VDD Level", 15 NC "No Connect", 16 XOUT "Crystal Output"

## CY26121KZXC-21
designator U?
PacketClock(TM) Spread Spectrum Clock Generator, 3.3 V, 5 Outputs, 25 to 33.33 MHz, 0 to 70 degC, 16-Pin TSSOP (ZX16), Tube; Manufacturer: Cypress; PartNumber: CY26121KZXC-21; Input Frequency Max. (MHz): 25; Max. Operating Voltage (V): 3.465; Min. Operating Voltage (V): 3.135; No. of Outputs: 5; Output Frequency Max. (MHz): 33.33; DatasheetVersion: Rev. *A; PackageVersion: Rev. *D, 09/2011; PackageReference: ZX16; PackageDescription: 16-Pin Thin Shrink Small Outline Package, Body 5 x 4.4 mm, Pitch 0.65 mm; Input Frequency Min. (MHz): 25; Max. Operating Temp. (degreesC): 70; Min. Operating Temp. (degreesC): 0; Output Frequency Min. (MHz): 25; Packing: Tube; RoHS: Pb-Free; Mounting Technology: Surface Mount; Code_JEDEC: MO-153; ComponentLink1Description: Manufacturer URL; ComponentLink1URL: http://www.cypress.com/; ComponentLink2Description: Datasheet; ComponentLink2URL: http://www.cypress.com/?docID=5302; ComponentLink3Description: Package Specification; ComponentLink3URL: http://www.cypress.com/?docID=39143
footprint CYP-ZX16_N (SOP, 16-Leads, Body 5.1x4.5mm, Pitch 0.65mm, IPC Medium Density)
footprint CYP-ZX16_L (SOP, 16-Leads, Body 5.1x4.5mm, Pitch 0.65mm, IPC High Density)
footprint CYP-ZX16_M (SOP, 16-Leads, Body 5.1x4.5mm, Pitch 0.65mm, IPC Low Density)
pins: 1 XIN (in) "Reference input Or Crystal Input", 2 VDD (power) "3.3V Voltage Supply", 3 AVDD (power) "3.3V Analog Voltage", 4 CLKSEL (in) "(orig., -11,-3,-31) 0 = 66.66MHz out, 1 = 33.33 MHz Out. Weak pull up. (-2, -21) 0 = 33.33MHz out, 1 = 25 MHz Out. Weak pull up.", 5 AVSS (power) "Analog Ground", 6 VSSL (power) "CLK Ground", 7 CLKA (out) "Clock Outputs at VDDL level", 8 CLKB (out) "Clock Outputs at VDDL level", 9 CLKC (out) "Clock Outputs at VDDL level", 10 SSON (in) "Spread Spectrum Enable pin 0 = SS off; 1 = SS on. Weak pull up.", 11 VDDL (power) "3.3V Clock Voltage Supply", 12 CLKD (out) "Clock Outputs at VDDL level", 13 VSS (power) "Ground", 14 REF (out) "Reference Output at VDD Level", 15 NC "No Connect", 16 XOUT "Crystal Output"

## CY26121KZXC-21T
designator U?
PacketClock(TM) Spread Spectrum Clock Generator, 3.3 V, 5 Outputs, 25 to 33.33 MHz, 0 to 70 degC, 16-Pin TSSOP (ZX16), Tape and Reel; Manufacturer: Cypress; PartNumber: CY26121KZXC-21T; Input Frequency Max. (MHz): 25; Max. Operating Voltage (V): 3.465; Min. Operating Voltage (V): 3.135; No. of Outputs: 5; Output Frequency Max. (MHz): 33.33; DatasheetVersion: Rev. *A; PackageVersion: Rev. *D, 09/2011; PackageReference: ZX16; PackageDescription: 16-Pin Thin Shrink Small Outline Package, Body 5 x 4.4 mm, Pitch 0.65 mm; Input Frequency Min. (MHz): 25; Max. Operating Temp. (degreesC): 70; Min. Operating Temp. (degreesC): 0; Output Frequency Min. (MHz): 25; Packing: Tape and Reel; RoHS: Pb-Free; Mounting Technology: Surface Mount; Code_JEDEC: MO-153; ComponentLink1Description: Manufacturer URL; ComponentLink1URL: http://www.cypress.com/; ComponentLink2Description: Datasheet; ComponentLink2URL: http://www.cypress.com/?docID=5302; ComponentLink3Description: Package Specification; ComponentLink3URL: http://www.cypress.com/?docID=39143
footprint CYP-ZX16_N (SOP, 16-Leads, Body 5.1x4.5mm, Pitch 0.65mm, IPC Medium Density)
footprint CYP-ZX16_L (SOP, 16-Leads, Body 5.1x4.5mm, Pitch 0.65mm, IPC High Density)
footprint CYP-ZX16_M (SOP, 16-Leads, Body 5.1x4.5mm, Pitch 0.65mm, IPC Low Density)
pins: 1 XIN (in) "Reference input Or Crystal Input", 2 VDD (power) "3.3V Voltage Supply", 3 AVDD (power) "3.3V Analog Voltage", 4 CLKSEL (in) "(orig., -11,-3,-31) 0 = 66.66MHz out, 1 = 33.33 MHz Out. Weak pull up. (-2, -21) 0 = 33.33MHz out, 1 = 25 MHz Out. Weak pull up.", 5 AVSS (power) "Analog Ground", 6 VSSL (power) "CLK Ground", 7 CLKA (out) "Clock Outputs at VDDL level", 8 CLKB (out) "Clock Outputs at VDDL level", 9 CLKC (out) "Clock Outputs at VDDL level", 10 SSON (in) "Spread Spectrum Enable pin 0 = SS off; 1 = SS on. Weak pull up.", 11 VDDL (power) "3.3V Clock Voltage Supply", 12 CLKD (out) "Clock Outputs at VDDL level", 13 VSS (power) "Ground", 14 REF (out) "Reference Output at VDD Level", 15 NC "No Connect", 16 XOUT "Crystal Output"

## CY26121KZXI-21
designator U?
PacketClock(TM) Spread Spectrum Clock Generator, 3.3 V, 5 Outputs, 25 to 33.33 MHz, -40 to 85 degC, 16-Pin TSSOP (ZX16), Tube; Manufacturer: Cypress; PartNumber: CY26121KZXI-21; Input Frequency Max. (MHz): 25; Max. Operating Voltage (V): 3.465; Min. Operating Voltage (V): 3.135; No. of Outputs: 5; Output Frequency Max. (MHz): 33.33; DatasheetVersion: Rev. *A; PackageVersion: Rev. *D, 09/2011; PackageReference: ZX16; PackageDescription: 16-Pin Thin Shrink Small Outline Package, Body 5 x 4.4 mm, Pitch 0.65 mm; Supplier 1: Digi-Key; Supplier Part Number 1: CY26121KZXI-21-ND; Supplier 2: Mouser; Supplier Part Number 2: 727-CY26121KZXI-21; Input Frequency Min. (MHz): 25; Max. Operating Temp. (degreesC): 85; Min. Operating Temp. (degreesC): -40; Output Frequency Min. (MHz): 25; Packing: Tube; RoHS: Pb-Free; Mounting Technology: Surface Mount; Code_JEDEC: MO-153; ComponentLink1Description: Manufacturer URL; ComponentLink1URL: http://www.cypress.com/; ComponentLink2Description: Datasheet; ComponentLink2URL: http://www.cypress.com/?docID=5302; ComponentLink3Description: Package Specification; ComponentLink3URL: http://www.cypress.com/?docID=39143
footprint CYP-ZX16_N (SOP, 16-Leads, Body 5.1x4.5mm, Pitch 0.65mm, IPC Medium Density)
footprint CYP-ZX16_L (SOP, 16-Leads, Body 5.1x4.5mm, Pitch 0.65mm, IPC High Density)
footprint CYP-ZX16_M (SOP, 16-Leads, Body 5.1x4.5mm, Pitch 0.65mm, IPC Low Density)
pins: 1 XIN (in) "Reference input Or Crystal Input", 2 VDD (power) "3.3V Voltage Supply", 3 AVDD (power) "3.3V Analog Voltage", 4 CLKSEL (in) "(orig., -11,-3,-31) 0 = 66.66MHz out, 1 = 33.33 MHz Out. Weak pull up. (-2, -21) 0 = 33.33MHz out, 1 = 25 MHz Out. Weak pull up.", 5 AVSS (power) "Analog Ground", 6 VSSL (power) "CLK Ground", 7 CLKA (out) "Clock Outputs at VDDL level", 8 CLKB (out) "Clock Outputs at VDDL level", 9 CLKC (out) "Clock Outputs at VDDL level", 10 SSON (in) "Spread Spectrum Enable pin 0 = SS off; 1 = SS on. Weak pull up.", 11 VDDL (power) "3.3V Clock Voltage Supply", 12 CLKD (out) "Clock Outputs at VDDL level", 13 VSS (power) "Ground", 14 REF (out) "Reference Output at VDD Level", 15 NC "No Connect", 16 XOUT "Crystal Output"

## CY26121KZXI-21T
designator U?
PacketClock(TM) Spread Spectrum Clock Generator, 3.3 V, 5 Outputs, 25 to 33.33 MHz, -40 to 85 degC, 16-Pin TSSOP (ZX16), Tape and Reel; Manufacturer: Cypress; PartNumber: CY26121KZXI-21T; Input Frequency Max. (MHz): 25; Max. Operating Voltage (V): 3.465; Min. Operating Voltage (V): 3.135; No. of Outputs: 5; Output Frequency Max. (MHz): 33.33; DatasheetVersion: Rev. *A; PackageVersion: Rev. *D, 09/2011; PackageReference: ZX16; PackageDescription: 16-Pin Thin Shrink Small Outline Package, Body 5 x 4.4 mm, Pitch 0.65 mm; Supplier 1: Digi-Key; Supplier Part Number 1: CY26121KZXI-21T-ND; Supplier 2: Mouser; Supplier Part Number 2: 727-CY26121KZXI-21T; Input Frequency Min. (MHz): 25; Max. Operating Temp. (degreesC): 85; Min. Operating Temp. (degreesC): -40; Output Frequency Min. (MHz): 25; Packing: Tape and Reel; RoHS: Pb-Free; Mounting Technology: Surface Mount; Code_JEDEC: MO-153; ComponentLink1Description: Manufacturer URL; ComponentLink1URL: http://www.cypress.com/; ComponentLink2Description: Datasheet; ComponentLink2URL: http://www.cypress.com/?docID=5302; ComponentLink3Description: Package Specification; ComponentLink3URL: http://www.cypress.com/?docID=39143
footprint CYP-ZX16_N (SOP, 16-Leads, Body 5.1x4.5mm, Pitch 0.65mm, IPC Medium Density)
footprint CYP-ZX16_L (SOP, 16-Leads, Body 5.1x4.5mm, Pitch 0.65mm, IPC High Density)
footprint CYP-ZX16_M (SOP, 16-Leads, Body 5.1x4.5mm, Pitch 0.65mm, IPC Low Density)
pins: 1 XIN (in) "Reference input Or Crystal Input", 2 VDD (power) "3.3V Voltage Supply", 3 AVDD (power) "3.3V Analog Voltage", 4 CLKSEL (in) "(orig., -11,-3,-31) 0 = 66.66MHz out, 1 = 33.33 MHz Out. Weak pull up. (-2, -21) 0 = 33.33MHz out, 1 = 25 MHz Out. Weak pull up.", 5 AVSS (power) "Analog Ground", 6 VSSL (power) "CLK Ground", 7 CLKA (out) "Clock Outputs at VDDL level", 8 CLKB (out) "Clock Outputs at VDDL level", 9 CLKC (out) "Clock Outputs at VDDL level", 10 SSON (in) "Spread Spectrum Enable pin 0 = SS off; 1 = SS on. Weak pull up.", 11 VDDL (power) "3.3V Clock Voltage Supply", 12 CLKD (out) "Clock Outputs at VDDL level", 13 VSS (power) "Ground", 14 REF (out) "Reference Output at VDD Level", 15 NC "No Connect", 16 XOUT "Crystal Output"

## CY26121ZC
designator U?
PacketClock(TM) Spread Spectrum Clock Generator, 3.3 V, 5 Outputs, 33.33 to 66.66 MHz, 0 to 70 degC, 16-Pin TSSOP (Z16), Tube; Manufacturer: Cypress; PartNumber: CY26121ZC; Input Frequency Max. (MHz): 25; Max. Operating Voltage (V): 3.465; Min. Operating Voltage (V): 3.135; No. of Outputs: 5; Output Frequency Max. (MHz): 66.66; Output Frequency Min. (MHz): 33.33; DatasheetVersion: Rev. *A; PackageVersion: Rev. *D; PackageReference: Z16; PackageDescription: 16-Pin Thin Shrink Small Outline Package, Body 5 x 4.4 mm, Pitch 0.65 mm; Input Frequency Min. (MHz): 25; Max. Operating Temp. (degreesC): 70; Min. Operating Temp. (degreesC): 0; Packing: Tube; RoHS: Pb-Free; Mounting Technology: Surface Mount; Code_JEDEC: MO-153; ComponentLink1Description: Manufacturer URL; ComponentLink1URL: http://www.cypress.com/; ComponentLink2Description: Datasheet; ComponentLink2URL: http://www.cypress.com/?docID=5302; ComponentLink3Description: Package Specification; ComponentLink3URL: http://www.cypress.com/?docID=46959
footprint CYP-Z16_N (SOP, 16-Leads, Body 5.1x4.5mm, Pitch 0.65mm, IPC Medium Density)
footprint CYP-Z16_L (SOP, 16-Leads, Body 5.1x4.5mm, Pitch 0.65mm, IPC High Density)
footprint CYP-Z16_M (SOP, 16-Leads, Body 5.1x4.5mm, Pitch 0.65mm, IPC Low Density)
pins: 1 XIN (in) "Reference input Or Crystal Input", 2 VDD (power) "3.3V Voltage Supply", 3 AVDD (power) "3.3V Analog Voltage", 4 CLKSEL (in) "(orig., -11,-3,-31) 0 = 66.66MHz out, 1 = 33.33 MHz Out. Weak pull up. (-2, -21) 0 = 33.33MHz out, 1 = 25 MHz Out. Weak pull up.", 5 AVSS (power) "Analog Ground", 6 VSSL (power) "CLK Ground", 7 CLKA (out) "Clock Outputs at VDDL level", 8 CLKB (out) "Clock Outputs at VDDL level", 9 CLKC (out) "Clock Outputs at VDDL level", 10 SSON (in) "Spread Spectrum Enable pin 0 = SS off; 1 = SS on. Weak pull up.", 11 VDDL (power) "3.3V Clock Voltage Supply", 12 CLKD (out) "Clock Outputs at VDDL level", 13 VSS (power) "Ground", 14 REF (out) "Reference Output at VDD Level", 15 NC "No Connect", 16 XOUT "Crystal Output"

## CY26121ZC-2
designator U?
PacketClock(TM) Spread Spectrum Clock Generator, 3.3 V, 5 Outputs, 25 to 33.33 MHz, 0 to 70 degC, 16-Pin TSSOP (Z16), Tube; Manufacturer: Cypress; PartNumber: CY26121ZC-2; Input Frequency Max. (MHz): 25; Max. Operating Voltage (V): 3.465; Min. Operating Voltage (V): 3.135; No. of Outputs: 5; Output Frequency Max. (MHz): 33.33; DatasheetVersion: Rev. *A; PackageVersion: Rev. *D; PackageReference: Z16; PackageDescription: 16-Pin Thin Shrink Small Outline Package, Body 5 x 4.4 mm, Pitch 0.65 mm; Input Frequency Min. (MHz): 25; Max. Operating Temp. (degreesC): 70; Min. Operating Temp. (degreesC): 0; Output Frequency Min. (MHz): 25; Packing: Tube; RoHS: Pb-Free; Mounting Technology: Surface Mount; Code_JEDEC: MO-153; ComponentLink1Description: Manufacturer URL; ComponentLink1URL: http://www.cypress.com/; ComponentLink2Description: Datasheet; ComponentLink2URL: http://www.cypress.com/?docID=5302; ComponentLink3Description: Package Specification; ComponentLink3URL: http://www.cypress.com/?docID=46959
footprint CYP-Z16_N (SOP, 16-Leads, Body 5.1x4.5mm, Pitch 0.65mm, IPC Medium Density)
footprint CYP-Z16_L (SOP, 16-Leads, Body 5.1x4.5mm, Pitch 0.65mm, IPC High Density)
footprint CYP-Z16_M (SOP, 16-Leads, Body 5.1x4.5mm, Pitch 0.65mm, IPC Low Density)
pins: 1 XIN (in) "Reference input Or Crystal Input", 2 VDD (power) "3.3V Voltage Supply", 3 AVDD (power) "3.3V Analog Voltage", 4 CLKSEL (in) "(orig., -11,-3,-31) 0 = 66.66MHz out, 1 = 33.33 MHz Out. Weak pull up. (-2, -21) 0 = 33.33MHz out, 1 = 25 MHz Out. Weak pull up.", 5 AVSS (power) "Analog Ground", 6 VSSL (power) "CLK Ground", 7 CLKA (out) "Clock Outputs at VDDL level", 8 CLKB (out) "Clock Outputs at VDDL level", 9 CLKC (out) "Clock Outputs at VDDL level", 10 SSON (in) "Spread Spectrum Enable pin 0 = SS off; 1 = SS on. Weak pull up.", 11 VDDL (power) "3.3V Clock Voltage Supply", 12 CLKD (out) "Clock Outputs at VDDL level", 13 VSS (power) "Ground", 14 REF (out) "Reference Output at VDD Level", 15 NC "No Connect", 16 XOUT "Crystal Output"